# EAGLE library part FPC-0.5-10P (library Deegou_Connector)
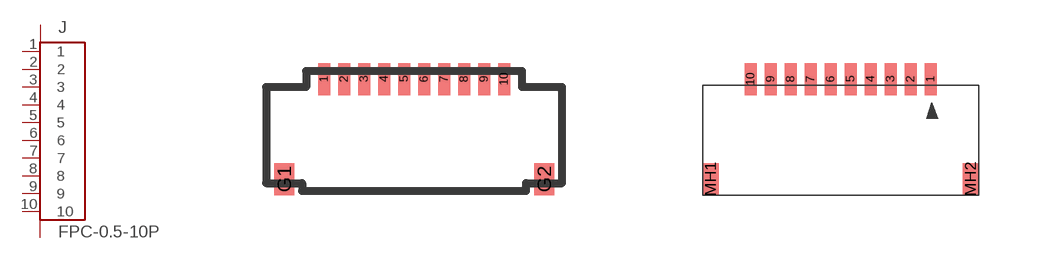
[diagram p51: symbol with the pads of FH19C-10S; footprints FH19C-10S, FH34RJ-10S]

Designator prefix J

## FPC-0.5-10P  [FH19C-10S]
1  1
2  2
3  3
4  4
5  5
6  6
7  7
8  8
9  9
10  10
G1  G1
G2  G2

## FPC-0.5-10P-FH34RJ  [FH34RJ-10S]
1  1
2  2
3  3
4  4
5  5
6  6
7  7
8  8
9  9
10  10
MH1  G1
MH2  G2

## Footprint FH19C-10S (pad centres in mm)
smd 0.3 x 0.8: 1 -2.25,0; 2 -1.75,0; 3 -1.25,0; 4 -0.75,0; 5 -0.25,0; 6 0.25,0; 7 0.75,0; 8 1.25,0; 9 1.75,0; 10 2.25,0
smd 0.5 x 0.8: G1 -3.25,-2.5; G2 3.25,-2.5

## Footprint FH34RJ-10S (pad centres in mm)
smd 0.3 x 0.8: 1 1.75,0; 2 1.25,0; 3 0.75,0; 4 0.25,0; 5 -0.25,0; 6 -0.75,0; 7 -1.25,0; 8 -1.75,0; 9 -2.25,0; 10 -2.75,0
smd 0.4 x 0.8: MH1 -3.75,-2.5; MH2 2.75,-2.5